# Altium footprint library B3B-XH-A.PcbLib: 1 footprints
Each footprint in its own frame and in the unit in brackets; x right, y up, seen from the top. Pads: shape width x height; smd on the part's side, far side on the other; paste and mask are expansions set on the pad; w line width, h text height; cw(c..) or ccw(c..) is an arc to the next point about the centre after c.
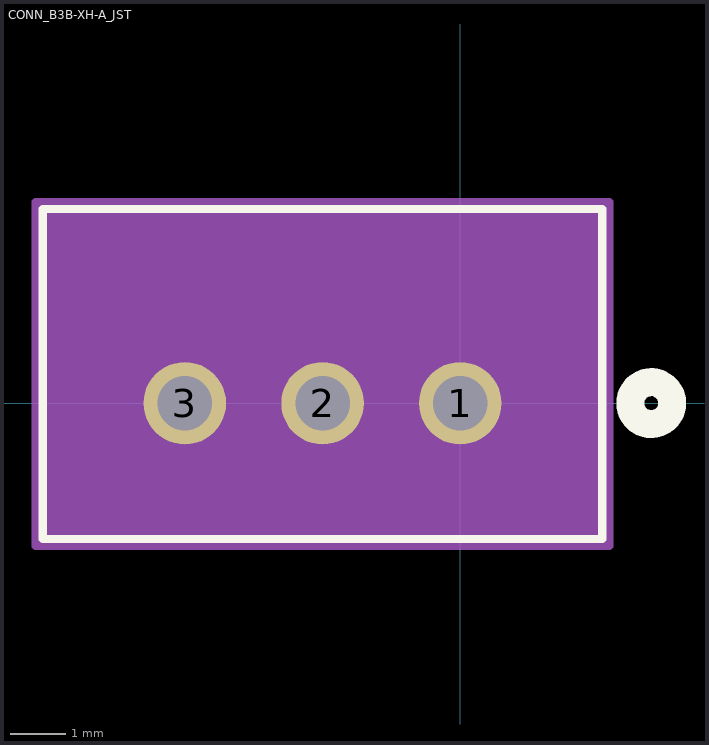
[diagram p0: the footprint, top view; thin cyan lines are the x and y axes]

## CONN_B3B-XH-A_JST [mil]
pads (3):
  round 59 hole 39 paste-29.5 mask+0: 1(0,0) 2(-98.43,0) 3(-196.85,0)
Top Overlay:
  circle w20: c136.57,0 r15
  lines w6: -298.43,-97.14 101.57,-97.14 101.57,138.86 -298.43,138.86 -298.43,-97.14
  text ".Designator" at -235.93,-25 h50
Bottom Overlay:
  circle w20: c136.57,0 r15
Mechanical 13:
  circle w20: c0,0 r15
  lines w1: -293.43,-92.14 96.57,-92.14 96.57,133.86 -293.43,133.86 -293.43,-92.14
  text ".Designator" at -235.93,-25 h50
Mechanical 15:
  region: 106.57,143.86 -303.43,143.86 -303.43,-102.14 106.57,-102.14
  lines w6: -303.43,-102.14 -303.43,143.86 106.57,143.86 106.57,-102.14 -303.43,-102.14